# Altium footprint library CN_TP_TH_1.3mm.PcbLib: 1 footprints
Each footprint in its own frame and in the unit in brackets; x right, y up, seen from the top. Pads: shape width x height; smd on the part's side, far side on the other; paste and mask are expansions set on the pad; w line width, h text height; cw(c..) or ccw(c..) is an arc to the next point about the centre after c.
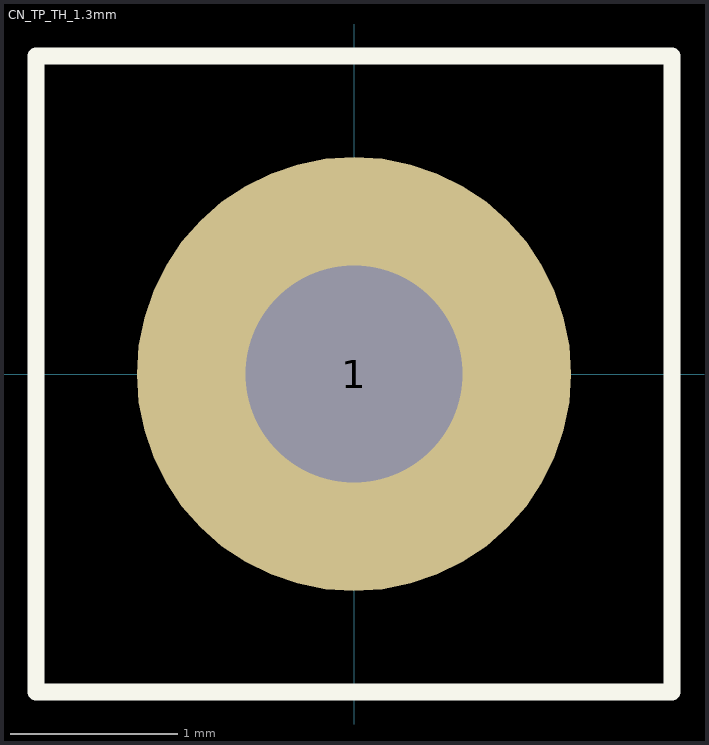
[diagram p0: the footprint, top view; thin cyan lines are the x and y axes]

## CN_TP_TH_1.3mm [mm]
pads (1):
  round 2.6 hole 1.3: 1(0,0)
Top Overlay:
  lines w0.102: -1.905,-1.905 1.905,-1.905 1.905,1.905 -1.905,1.905 -1.905,0 -1.905,-1.905
3D body: height 1, standoff 0, extent -2.976,-2.994 3,2.994
3D body: height 1, standoff 0, extent -2.976,-2.994 3,2.994